# Altium schematic symbol library 1735446-3.SchLib: 1 symbol
Pins are listed as number, name and electrical type; pins without a type are passive.

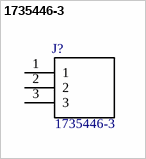
[diagram p0: symbol 1735446-3]

## 1735446-3
designator J?
SnapEDA_Link: https://www.snapeda.com/parts/1735446-3/TE%20Connectivity%20AMP%20Connectors/view-part/453361/?ref=snap; Value: *
footprint *TE_1735446-3
pins: 1, 2, 3